# EAGLE library part PULSE-H0068ANL (library magnetics)
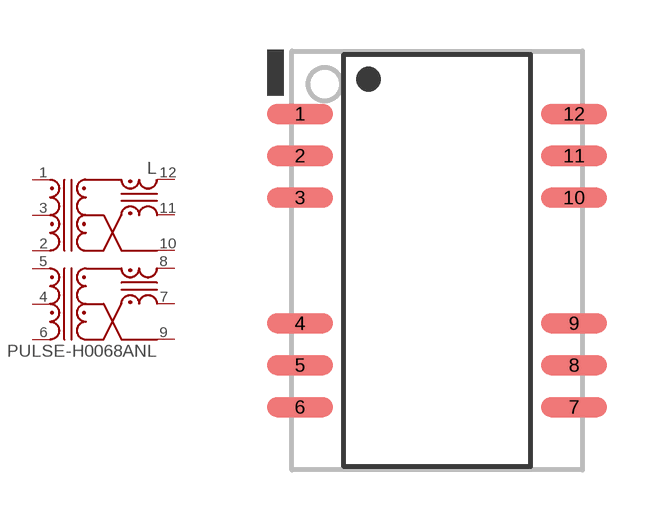
[diagram p1: symbol with the pads of PULSE-H0068ANL; footprint PULSE-H0068ANL]

Designator prefix L

## PULSE-H0068ANL/SO  [PULSE-H0068ANL]
1  RD+  pas
2  RD-  pas
3  RDCT  pas
4  TDCT  pas
5  TD+  pas
6  TD-  pas
7  TX-  pas
8  TX+  pas
9  TXCT  pas
10  RXCT  pas
11  RX-  pas
12  RX+  pas

## Footprint PULSE-H0068ANL (pad centres in mm)
smd 2 x 0.6: 1 -4.15,4.445; 2 -4.15,3.175; 3 -4.15,1.905; 4 -4.15,-1.905; 5 -4.15,-3.175; 6 -4.15,-4.445; 7 4.15,-4.445; 8 4.15,-3.175; 9 4.15,-1.905; 10 4.15,1.905; 11 4.15,3.175; 12 4.15,4.445